# EAGLE library part 62002821821 (library Board-to-Board (rev18a))
WR-PHD 2.00mm Dual Socket Header, 28 Pins=>Code : Con_BTB_SHD_2.00_2_62002821821 <http://katalog.we-online.de/media/thumbs2/eican/thb_Con_BTB_SHD_2.00_2_6200xx21821_pf2.jpg> Details see: http://katalog.we-online.de/en/em/PHD_2_00_DUAL_SOCKET_HEADER_6200XX21821 Created 2014-06-03, Karrer Zheng 2014 (C) Würth Elektronik
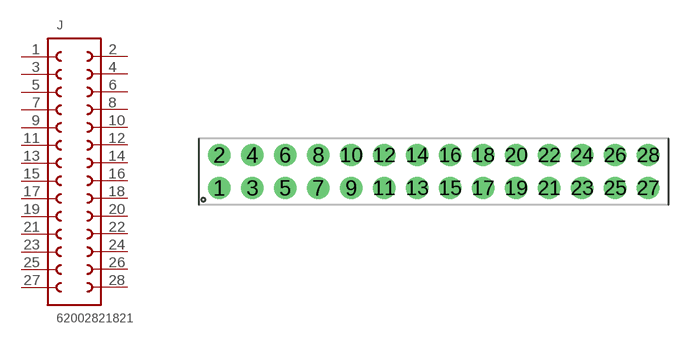
[diagram p251: symbol with the pads of 62002821821; footprint 62002821821]

Designator prefix J

## 62002821821  [62002821821]
1  1  pas
2  28  pas
3  2  pas
4  27  pas
5  3  pas
6  26  pas
7  4  pas
8  25  pas
9  5  pas
10  24  pas
11  6  pas
12  23  pas
13  7  pas
14  22  pas
15  8  pas
16  21  pas
17  9  pas
18  20  pas
19  10  pas
20  19  pas
21  11  pas
22  18  pas
23  12  pas
24  17  pas
25  13  pas
26  16  pas
27  14  pas
28  15  pas

## Footprint 62002821821 (pad centres in mm)
WR-PHD 2.00mm Dual Socket Header, 28 Pins
drill 0.85: 1 -13,-1; 2 -13,1; 3 -11,-1; 4 -11,1; 5 -9,-1; 6 -9,1; 7 -7,-1; 8 -7,1; 9 -5,-1; 10 -5,1; 11 -3,-1; 12 -3,1; 13 -1,-1; 14 -1,1; 15 1,-1; 16 1,1; 17 3,-1; 18 3,1; 19 5,-1; 20 5,1; 21 7,-1; 22 7,1; 23 9,-1; 24 9,1; 25 11,-1; 26 11,1; 27 13,-1; 28 13,1